# Altium schematic symbol library Battery.SchLib: 1 symbol
Pins are listed as number, name and electrical type; pins without a type are passive.

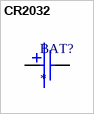
[diagram p0: symbol CR2032]

## CR2032
designator BAT?
CR2032 Holder
footprint CR2032_H
footprint CR2032_holder_H
footprint CR2032_holder_V
footprint CR2032_V
pins: 1 + (power), 2 - (power)